# EAGLE library part STM32L475R (library STM32)
STM32L475R - MCU 32BIT 64LQFP Ultra-low-power ARM ® Cortex ® -M4 32-bit MCU+FPU, 100DMIPS, up to 1MB Flash, 128 KB SR AM, USB OTG FS, analog, audio Datasheets STM32L4x5 Reference Manual <http://www.st.com/content/ccc/resource/technical/document/reference_manual/d3/d6/fd/f0/32/58/4d/f1/DM00151945.pdf/files/DM00151945.pdf/jcr:content/translations/en.DM00151945.pdf> STM32L475xx Errata <http://www.st.com/content/ccc/resource/technical/document/errata_sheet/f9/fb/91/0c/12/33/46/55/DM00181978.pdf/files/DM00181978.pdf/jcr:content/translations/en.DM00181978.pdf> Design Resources Development Tool Selector <http://www.digikey.com/en/resources/development-tools/product-selector> Online Catalog STM32 L4 Series </catalog/en/partgroup/stm32-l4-series/55982?mpart=STM32L475RGT6&vendor=497> Product Attributes Categories Integrated Circuits (ICs) <https://www.digikey.com/products/en/integrated-circuits-ics/32> Embedded - Microcontrollers <https://www.digikey.com/products/en/integrated-circuits-ics/embedded-microcontrollers/685> Manufacturer STMicroelectronics Series STM32L4 <https://www.digikey.com/products/en?FV=ffecc011&pkeyword=STM32L475> Packaging Tray Part Status Active Core Processor ARM® Cortex®-M4 Core Size 32-Bit Speed 80MHz Connectivity CAN, I²C, IrDA, LIN, MMC/SD, QSPI, SAI, SPI, SWPMI, UART/USART, USB OTG Peripherals Brown-out Detect/Reset, DMA, PWM, WDT Number of I/O 51 Program Memory Size 1MB (1M x 8) Program Memory Type FLASH EEPROM Size - RAM Size 128K x 8 Voltage - Supply (Vcc/Vdd) 1.71 V ~ 3.6 V Data Converters A/D 16x12b, D/A 2x12b Oscillator Type Internal Operating Temperature -40°C ~ 125°C (TA) Package / Case 64-LQFP Supplier Device Package 64-LQFP (10x10)
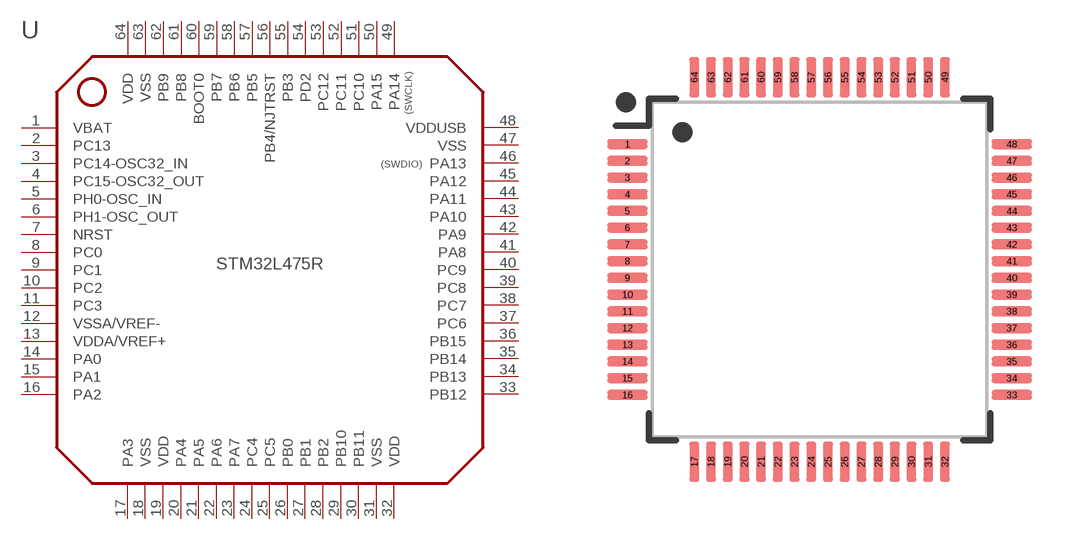
[diagram p7: symbol with the pads of LQFP-64; footprint LQFP-64]

Designator prefix U

## STM32L475RCT3 (DATASHEET: https://goo.gl/q9M5uB; DESC: MCU 32BIT 256KB FLASH 64LQFP; MANF: STMicroelectronics; MEM: 256KB; MFPN: STM32L475RCT3; STATUS: Active; TEMP: -40°C ~ 125°C (TA)), STM32L475RET3 (DATASHEET: https://goo.gl/q9M5uB; DESC: MCU 32BIT 512KB FLASH 64LQFP; MANF: STMicroelectronics; MEM: 512KB; MFPN: STM32L475RET3; STATUS: Active; TEMP: -40°C ~ 125°C (TA)), STM32L475RGT3 (DATASHEET: https://goo.gl/q9M5uB; DESC: MCU 32BIT 1MB FLASH 64LQFP; MANF: STMicroelectronics; MEM: 1MB; MFPN: STM32L475RGT3; STATUS: Active; TEMP: -40°C ~ 125°C (TA))  [LQFP-64]
1  VBAT  pwr
2  PC13
3  PC14-OSC32_IN
4  PC15-OSC32_OUT
5  PH0-OSC_IN
6  PH1-OSC_OUT
7  NRST
8  PC0
9  PC1
10  PC2
11  PC3
12  VSSA/VREF-  pwr
13  VDDA/VREF+  pwr
14  PA0
15  PA1
16  PA2
17  PA3
18  VSS  pwr
19  VDD  pwr
20  PA4
21  PA5
22  PA6
23  PA7
24  PC4
25  PC5
26  PB0
27  PB1
28  PB2
29  PB10
30  PB11
31  VSS  pwr
32  VDD  pwr
33  PB12
34  PB13
35  PB14
36  PB15
37  PC6
38  PC7
39  PC8
40  PC9
41  PA8
42  PA9
43  PA10
44  PA11
45  PA12
46  PA13
47  VSS  pwr
48  VDDUSB  pwr
49  PA14
50  PA15
51  PC10
52  PC11
53  PC12
54  PD2
55  PB3
56  PB4/NJTRST
57  PB5
58  PB6
59  PB7
60  BOOT0  in
61  PB8
62  PB9
63  VSS  pwr
64  VDD  pwr

## STM32L475RCT6 (DATASHEET: https://goo.gl/q9M5uB; DESC: MCU 32BIT 256KB FLASH 64LQFP; MANF: STMicroelectronics; MEM: 256KB; MFPN: STM32L475RCT6; STATUS: Active; TEMP: -40°C ~ 85°C (TA)), STM32L475RET6 (DATASHEET: https://goo.gl/q9M5uB; DESC: MCU 32BIT 512KB FLASH 64LQFP; MANF: STMicroelectronics; MEM: 512KB; MFPN: STM32L475RET6; STATUS: Active; TEMP: -40°C ~ 85°C (TA)), STM32L475RGT6 (DATASHEET: https://goo.gl/q9M5uB; DESC: MCU 32BIT 1MB FLASH 64LQFP; MANF: STMicroelectronics; MEM: 1MB; MFPN: STM32L475RGT6; STATUS: Active; TEMP: -40°C ~ 85°C (TA))  [LQFP-64]
Pads as for LQFP-64

## Footprint LQFP-64 (pad centres in mm)
LQFP64 - 64-pin, 10 x 10 mm low-profile quad flat package Changelog: 051917 - Changed pads to reccomened or STM32L475. Added keepout and Integrated some draw style from ipc-wizrd.ulp
smd 1.2 x 0.3: 1 -5.75,3.75; 2 -5.75,3.25; 3 -5.75,2.75; 4 -5.75,2.25; 5 -5.75,1.75; 6 -5.75,1.25; 7 -5.75,0.75; 8 -5.75,0.25; 9 -5.75,-0.25; 10 -5.75,-0.75; 11 -5.75,-1.25; 12 -5.75,-1.75; 13 -5.75,-2.25; 14 -5.75,-2.75; 15 -5.75,-3.25; 16 -5.75,-3.75; 33 5.75,-3.75; 34 5.75,-3.25; 35 5.75,-2.75; 36 5.75,-2.25; 37 5.75,-1.75; 38 5.75,-1.25; 39 5.75,-0.75; 40 5.75,-0.25; 41 5.75,0.25; 42 5.75,0.75; 43 5.75,1.25; 44 5.75,1.75; 45 5.75,2.25; 46 5.75,2.75; 47 5.75,3.25; 48 5.75,3.75
smd 0.3 x 1.2: 17 -3.75,-5.75; 18 -3.25,-5.75; 19 -2.75,-5.75; 20 -2.25,-5.75; 21 -1.75,-5.75; 22 -1.25,-5.75; 23 -0.75,-5.75; 24 -0.25,-5.75; 25 0.25,-5.75; 26 0.75,-5.75; 27 1.25,-5.75; 28 1.75,-5.75; 29 2.25,-5.75; 30 2.75,-5.75; 31 3.25,-5.75; 32 3.75,-5.75; 49 3.75,5.75; 50 3.25,5.75; 51 2.75,5.75; 52 2.25,5.75; 53 1.75,5.75; 54 1.25,5.75; 55 0.75,5.75; 56 0.25,5.75; 57 -0.25,5.75; 58 -0.75,5.75; 59 -1.25,5.75; 60 -1.75,5.75; 61 -2.25,5.75; 62 -2.75,5.75; 63 -3.25,5.75; 64 -3.75,5.75